# Altium schematic symbol library SYM-OSHWACERT.SchLib: 1 symbol
Pins are listed as number, name and electrical type; pins without a type are passive.

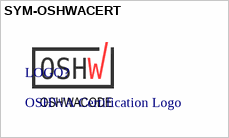
[diagram p0: symbol SYM-OSHWACERT]

## SYM-OSHWACERT
designator LOGO?, comment OSHWA Certification Logo
UniqueCode: OSHWACODE
footprint OSHWACERT-SML
footprint OSHWACERT-MED
footprint OSHWACERT-LRG